# Altium schematic symbol library IC.SchLib: 4 symbols
Pins are listed as number, name and electrical type; pins without a type are passive.

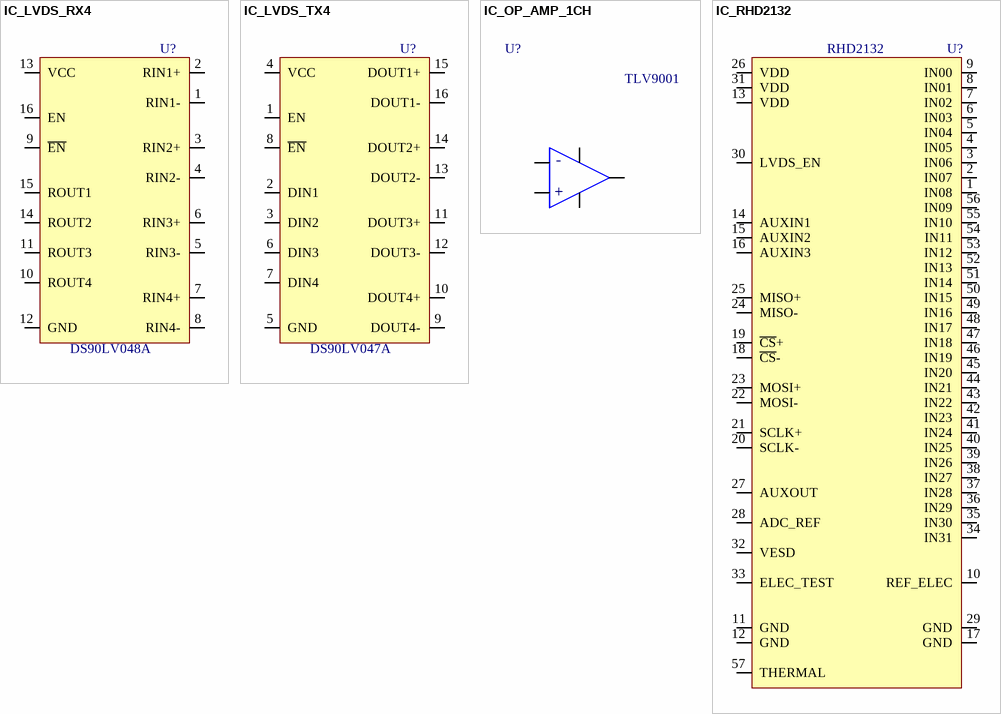
[diagram p0: symbols IC_LVDS_RX4 to IC_RHD2132]

## IC_LVDS_RX4
designator U?, comment DS90LV048A
LVDS Receiver 4 Channels with Enable
footprint TTSOP_16
pins: 1 RIN1-, 2 RIN1+, 3 RIN2+, 4 RIN2-, 5 RIN3-, 6 RIN3+, 7 RIN4+, 8 RIN4-, 9 ~{EN}, 10 ROUT4, 11 ROUT3, 12 GND, 13 VCC, 14 ROUT2, 15 ROUT1, 16 EN

## IC_LVDS_TX4
designator U?, comment DS90LV047A
LVDS Transceiver 4 Channels with Enable
footprint TTSOP_16
pins: 1 EN, 2 DIN1, 3 DIN2, 4 VCC, 5 GND, 6 DIN3, 7 DIN4, 8 ~{EN}, 9 DOUT4-, 10 DOUT4+, 11 DOUT3+, 12 DOUT3-, 13 DOUT2-, 14 DOUT2+, 15 DOUT1+, 16 DOUT1-

## IC_OP_AMP_1CH
designator U?, comment TLV9001
CMOS Amplifier 1 Circuit Rail-to-Rail SC-70-5 / 1.8V - 5.5V
footprint SOT-353 (SOT-353 Package - 5 Pins)
pins: 1 Out, 2 V-, 3 IN+, 4 IN-, 5 V+
text: -; +

## IC_RHD2132
designator U?, comment RHD2132
INTAN RHD2132 - 56-QFN; GRAMS Lib Spec: 2.7
footprint QFN-56 (56 Pin QFN Package)
pins: 1 IN08, 2 IN07, 3 IN06, 4 IN05, 5 IN04, 6 IN03, 7 IN02, 8 IN01, 9 IN00, 10 REF_ELEC, 11 GND, 12 GND, 13 VDD, 14 AUXIN1, 15 AUXIN2, 16 AUXIN3, 17 GND, 18 ~{CS}-, 19 ~{CS}+, 20 SCLK-, 21 SCLK+, 22 MOSI-, 23 MOSI+, 24 MISO-, 25 MISO+, 26 VDD, 27 AUXOUT, 28 ADC_REF, 29 GND, 30 LVDS_EN, 31 VDD, 32 VESD, 33 ELEC_TEST, 34 IN31, 35 IN30, 36 IN29, 37 IN28, 38 IN27, 39 IN26, 40 IN25, 41 IN24, 42 IN23, 43 IN22, 44 IN21, 45 IN20, 46 IN19, 47 IN18, 48 IN17, 49 IN16, 50 IN15, 51 IN14, 52 IN13, 53 IN12, 54 IN11, 55 IN10, 56 IN09, 57 THERMAL